# Altium footprint library SRN8040-100M.PcbLib: 1 footprints
Each footprint in its own frame and in the unit in brackets; x right, y up, seen from the top. Pads: shape width x height; smd on the part's side, far side on the other; paste and mask are expansions set on the pad; w line width, h text height; cw(c..) or ccw(c..) is an arc to the next point about the centre after c.
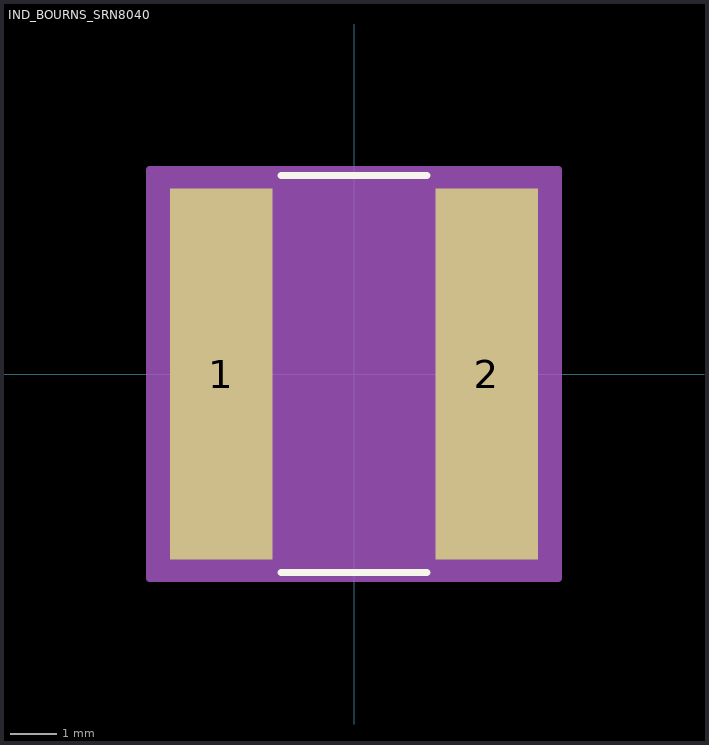
[diagram p0: the footprint, top view; thin cyan lines are the x and y axes]

## IND_BOURNS_SRN8040 [mil]
pads (2):
  rect 87x315 smd paste+0 mask+0: 1(-112.5,0) 2(112.5,0)
Top Overlay:
  lines w6: -61.89,-168.5 61.89,-168.5 ; -61.89,168.5 61.89,168.5
  text ".Designator" at -255,195 h50
Mechanical 13:
  lines w1: -163.5,-81.75 -81.75,-163.5 81.75,-163.5 163.5,-81.75 163.5,81.75 81.75,163.5 -81.75,163.5 -163.5,81.75 -163.5,-81.75
  text "*" at -156,-50 h50
  text ".Designator" at -255,195 h50
Mechanical 15:
  region: 173.5,-173.5 -173.5,-173.5 -173.5,173.5 173.5,173.5
  lines w6: -173.5,-173.5 173.5,-173.5 173.5,173.5 -173.5,173.5 -173.5,-173.5